# Altium footprint library WispLib.PcbLib: 59 footprints (part 3 of 4)
Each footprint in its own frame and in the unit in brackets; x right, y up, seen from the top. Pads: shape width x height; smd on the part's side, far side on the other; paste and mask are expansions set on the pad; w line width, h text height; cw(c..) or ccw(c..) is an arc to the next point about the centre after c.
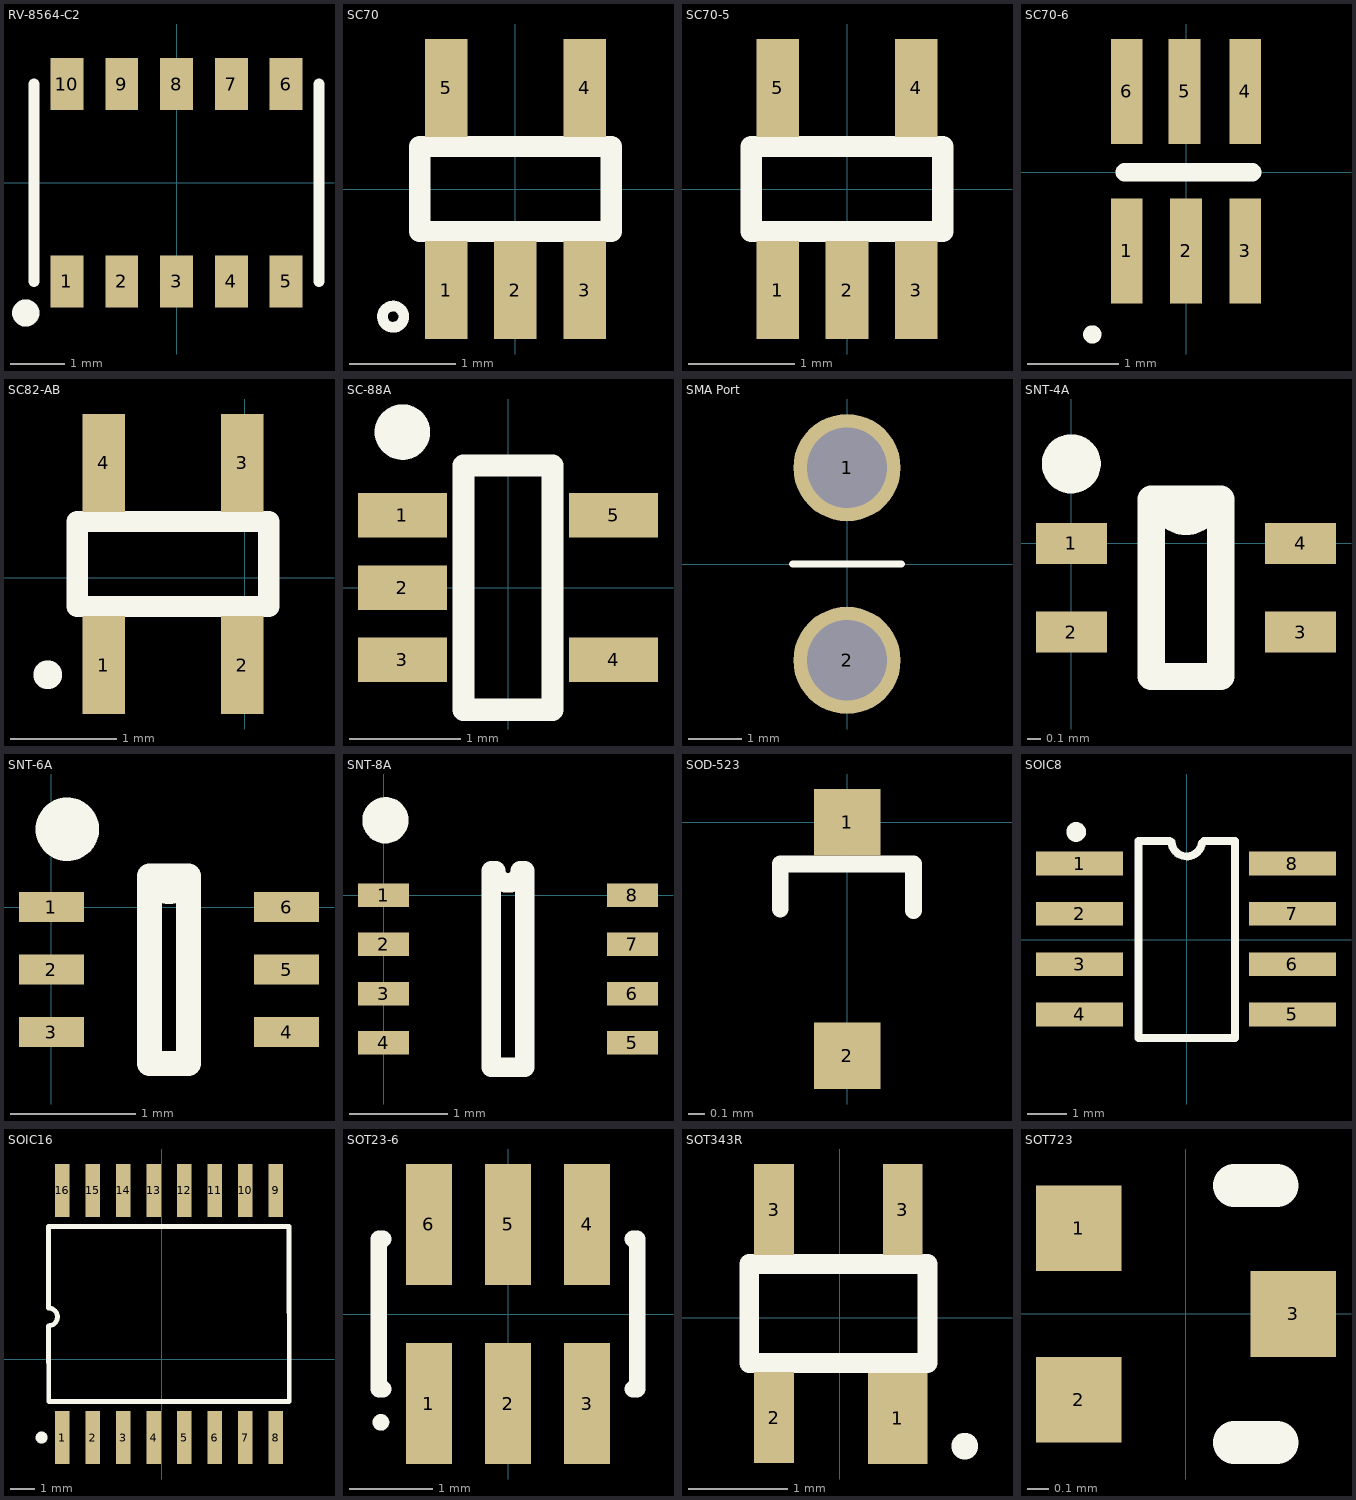
[diagram p2: the footprints below, top view; thin cyan lines are the x and y axes]

## RV-8564-C2 [mm] "RV-8564-C2 RTC Package: LCC, 10-Pins, Body 5.2x3.4mm (max), Pitch 1.00mm, IPC Medium Density"
height 1.2
pads (10):
  rect 0.6x0.95 smd: 1(-2,-1.8) 2(-1,-1.8) 3(0,-1.8) 4(1,-1.8) 5(2,-1.8) 6(2,1.8) 7(1,1.8) 8(0,1.8) 9(-1,1.8) 10(-2,1.8)
Top Overlay:
  circle w0.25: c-2.75,-2.375 r0.125
  lines w0.2: -2.6,-1.8 -2.6,1.8 ; 2.6,-1.8 2.6,1.8

## SC70 [mm] "Ultra low Power LDO - TI"
height 1.1
pads (5):
  rect 0.4x0.92 smd: 1(-0.65,-0.95) 2(0,-0.95) 3(0.65,-0.95) 4(0.65,0.95) 5(-0.65,0.95)
Top Overlay:
  circle w0.1: c-1.15,-1.2 r0.1
  lines w0.2: -0.9,-0.4 -0.9,0.4 0.9,0.4 0.9,-0.4 -0.9,-0.4

## SC70-5 [mm] "SC70-5"
pads (5):
  rect 0.4x0.92 smd: 1(-0.65,-0.95) 2(0,-0.95) 3(0.65,-0.95) 4(0.65,0.95) 5(-0.65,0.95)
Top Overlay:
  lines w0.2: -0.9,-0.4 -0.9,0.4 0.9,0.4 0.9,-0.4 -0.9,-0.4

## SC70-6 [mm] "DIP; 24 Leads; Row Spacing 15.24 mm; Pitch 2.54 mm"
height 5.72
pads (6):
  rect 0.35x1.15 smd: 1(-0.652,-0.863) 2(-0.002,-0.863) 3(0.648,-0.863) 4(0.648,0.887) 5(-0.017,0.887) 6(-0.652,0.887)
Top Overlay:
  circle w0.1: c-1.03,-1.779 r0.05
  lines w0.2: -0.675,-0.001 0.725,-0.001

## SC82-AB [mm]
pads (4):
  rect 0.4x0.92 smd: 1(-1.323,-0.823) 2(-0.023,-0.823) 3(-0.023,1.077) 4(-1.323,1.077)
Top Overlay:
  circle w0.254: c-1.849,-0.914 r0.008
  lines w0.2: -1.573,-0.273 -1.573,0.527 0.227,0.527 0.227,-0.273 -1.573,-0.273

## SC-88A [mm] "SC-88A 5-Leads, Body 2.2x2.2mm (max), Pitch 0.65mm, IPC Medium Density"
height 1
pads (5):
  rect 0.8x0.4 smd: 1(-0.95,0.65) 2(-0.95,0) 3(-0.95,-0.65) 4(0.95,-0.65) 5(0.95,0.65)
Top Overlay:
  circle w0.25: c-0.95,1.4 r0.125
  lines w0.2: -0.4,-1.1 -0.4,1.1 0.4,1.1 0.4,-1.1 -0.4,-1.1

## SMA Port [mm] "SMA port for wisp"
pads (2):
  round 2 hole 1.5: 1(0,1.796) 2(0,-1.796)
Top Overlay:
  lines w0.127: -1.016,0 1.016,0

## SNT-4A [mm]
pads (4):
  rect 0.52x0.3 smd: 1(0,0) 2(0,-0.65) 3(1.68,-0.65) 4(1.68,0)
Top Overlay:
  circle w0.254: c-0.001,0.584 r0.09
  lines w0.2: 0.585,-0.975 0.585,0.325 1.002,0.325 cw(c0.84,0.325) 0.677,0.325 1.095,0.325 1.095,-0.975 0.585,-0.975

## SNT-6A [mm]
pads (6):
  rect 0.52x0.24 smd: 1(0,0) 2(0,-0.5) 3(0,-1) 4(1.88,-1) 5(1.88,-0.5) 6(1.88,0)
Top Overlay:
  circle w0.254: c0.127,0.622 r0.127
  lines w0.2: 0.785,-1.25 1.095,-1.25 1.095,0.25 0.815,0.25 ccw(c0.94,0.25) 1.065,0.25 0.785,0.25 0.785,-1.25

## SNT-8A [mm]
pads (8):
  rect 0.52x0.24 smd: 1(0,0) 2(0,-0.5) 3(0,-1) 4(0,-1.5) 5(2.53,-1.5) 6(2.53,-1) 7(2.53,-0.5) 8(2.53,0)
Top Overlay:
  circle w0.254: c0.019,0.762 r0.108
  lines w0.2: 1.095,-1.75 1.435,-1.75 1.435,0.25 1.39,0.25 cw(c1.265,0.25) 1.14,0.25 1.095,0.25 1.095,-1.75

## SOD-523 [mm] "SOD-523 Footprint"
height 1
pads (2):
  rect 0.4x0.4 smd: 1(0,0) 2(0,-1.4)
Top Overlay:
  lines w0.1: -0.401,-0.521 -0.401,-0.248 ; -0.4,-0.25 0.4,-0.25 ; 0.399,-0.531 0.399,-0.258

## SOIC8 [mm] "8-Lead SOIC"
height 1.75
pads (8):
  rect 2.2x0.6 smd: 1(-2.709,1.918) 2(-2.709,0.648) 3(-2.709,-0.622) 4(-2.709,-1.892) 5(2.671,-1.892) 6(2.671,-0.622) 7(2.671,0.648) 8(2.671,1.918)
Top Overlay:
  circle w0.25: c-2.792,2.718 r0.125
  lines w0.2: -1.219,2.489 -1.219,-2.489 1.219,-2.489 -1.143,-2.489 ; -1.194,2.489 -0.432,2.489 ; -0.388,2.463 ccw(c0,2.489) 0.386,2.441 ; 0.432,2.489 1.219,2.489 1.219,-2.464

## SOIC16 [mm] "SOIC 16"
height 0.508
pads (16):
  rect 0.6x2.2 smd: 1(-4.153,-3.26) 2(-2.883,-3.26) 3(-1.613,-3.26) 4(-0.343,-3.26) 5(0.927,-3.26) 6(2.197,-3.26) 7(3.467,-3.26) 8(4.737,-3.26) 9(4.737,7.007) 10(3.467,7.007) 11(2.197,7.007) 12(0.927,7.007) 13(-0.343,7.007) 14(-1.613,7.007) 15(-2.883,7.007) 16(-4.153,7.007)
Top Overlay:
  circle w0.25: c-5.003,-3.26 r0.125
  lines w0.2: -4.712,1.372 -4.708,-1.76 5.292,-1.76 5.283,5.512 ; -4.712,1.386 ccw(c-4.712,1.753) -4.712,2.119 ; -4.712,2.121 -4.712,5.512 ; -4.708,5.507 5.292,5.507

## SOT23-6 [mm] "SOT-457/SC-74; 6 Leads; Body 3 x 3 mm, inc. leads (LxW max)"
height 1.45
pads (6):
  rect 0.55x1.45 smd: 1(-0.95,-1.075) 2(0,-1.075) 3(0.95,-1.075) 4(0.95,1.075) 5(0,1.075) 6(-0.95,1.075)
Top Overlay:
  circle w0.1: c-1.525,-1.3 r0.05
  lines w0.2: -1.5,-0.9 -1.55,-0.9 -1.55,0.9 -1.5,0.9 ; 1.5,-0.9 1.55,-0.9 1.55,0.9 1.5,0.9

## SOT343R [mm] "SOT343R Package for BF1212"
pads (4):
  rect 0.6x0.92 smd: 1(0.584,-1.016)
  rect 0.4x0.92 smd: 2(-0.664,-1.007) 3(-0.664,1.093) 3(0.636,1.093)
Top Overlay:
  circle w0.254: c1.262,-1.295 r0.008
  lines w0.2: -0.914,-0.457 0.886,-0.457 0.886,0.543 -0.914,0.543 -0.914,-0.457

## SOT723 [mm] "SOT723, 3-Leads, Body 1.3x1.3mm (max), Pitch 0.40mm, IPC Medium Density"
height 0.55
pads (3):
  rect 0.4x0.4 smd: 1(-0.5,0.4) 2(-0.5,-0.4) 3(0.5,0)
Top Overlay:
  lines w0.2: 0.225,-0.6 0.425,-0.6 ; 0.225,0.6 0.425,0.6